# Altium schematic symbol library 1EDS5663HXUMA1.SchLib: 1 symbol
Pins are listed as number, name and electrical type; pins without a type are passive.

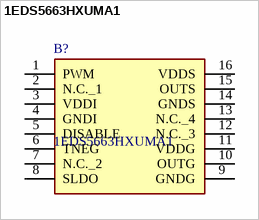
[diagram p0: symbol 1EDS5663HXUMA1]

## 1EDS5663HXUMA1
designator B?
INFINEON - 1EDS5663HXUMA1 - MOSFET DRIVER, -40 TO 85DEG C; Geometry.Height: 2.65mm; Manufacturer_Name: Infineon; Manufacturer_Part_Number: 1EDS5663HXUMA1; Mouser Part Number: 726-1EDS5663HXUMA1; Mouser Price/Stock: https://www.mouser.co.uk/ProductDetail/Infineon-Technologies/1EDS5663HXUMA1?qs=qSfuJ%252Bfl%2Fd4lzhyBsDCQtQ%3D%3D; Arrow Part Number: 1EDS5663HXUMA1; Arrow Price/Stock: https://www.arrow.com/en/products/1eds5663hxuma1/infineon-technologies-ag; Datasheet Link: https://www.infineon.com/cms/en/product/power/gate-driver-ics/?
footprint SOIC127P1030X265-16N
pins: 1 PWM, 2 N.C._1, 3 VDDI, 4 GNDI, 5 DISABLE, 6 TNEG, 7 N.C._2, 8 SLDO, 9 GNDG, 10 OUTG, 11 VDDG, 12 N.C._3, 13 N.C._4, 14 GNDS, 15 OUTS, 16 VDDS